# Altium schematic symbol library Schlib1.SchLib: 823 symbols (part 2 of 12)
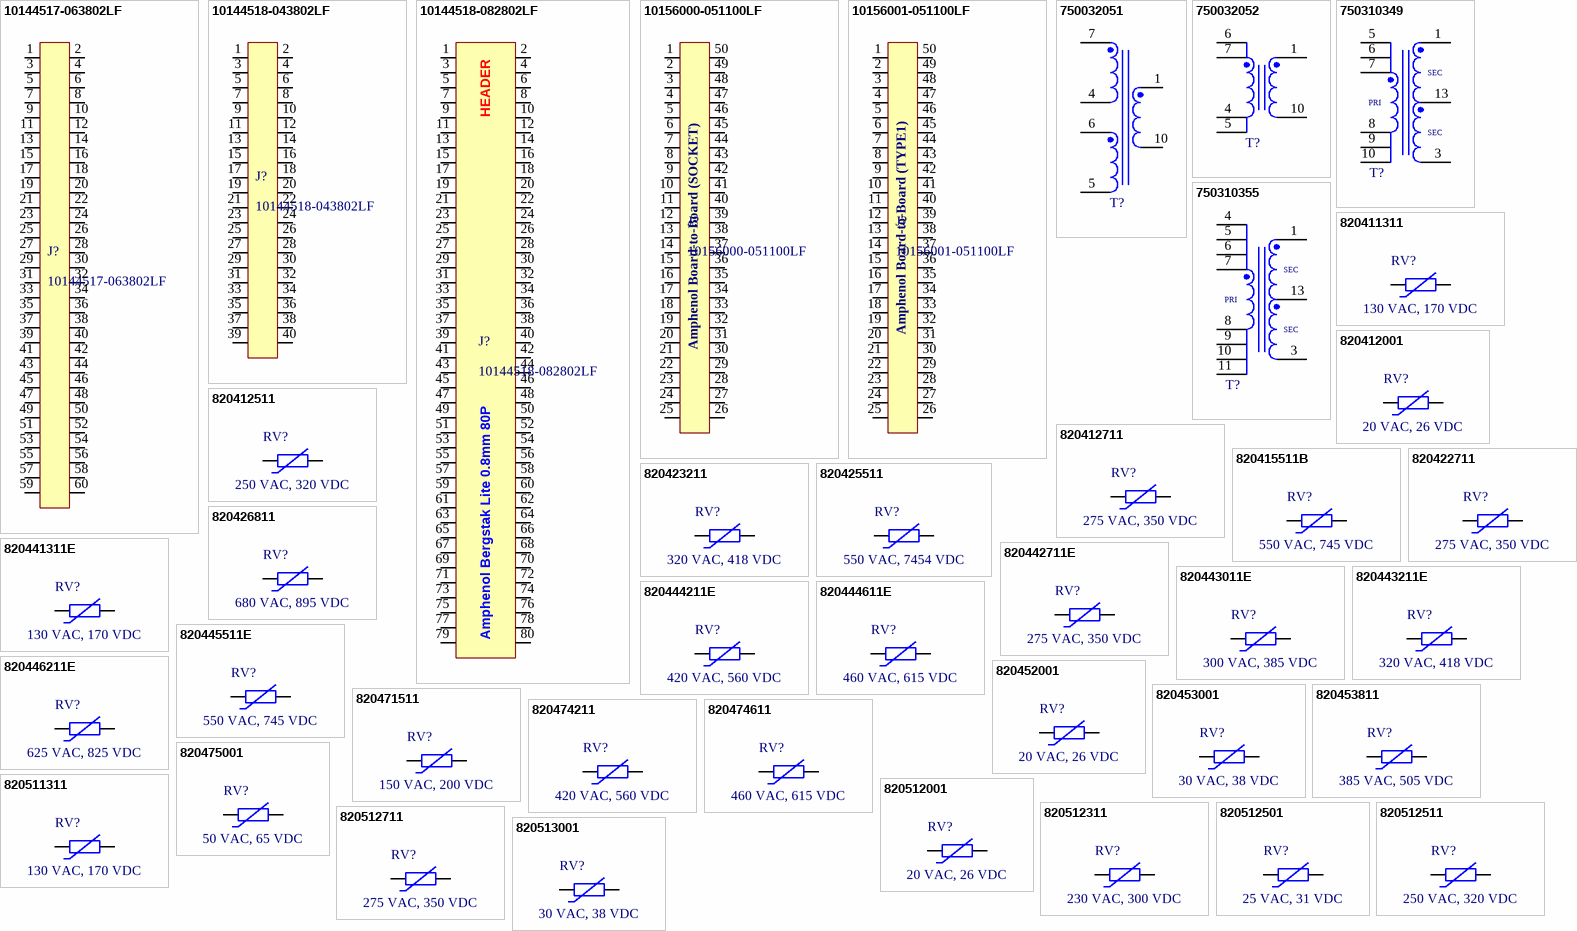
[diagram p40: symbols 10144517-063802LF to 820513001]

## 820474611
designator RV?, comment 460 VAC, 615 VDC
WE-VD Disk Varistor, D9 x H13 mm, 460 VAC, 615 VDC; Manufacturer Part Number: 820474611; Manufacturer: Wurth Elektronik; Channel Input Capacitance: 75 pF; Clamping Voltage: 1240 V; Energy Absorption: 58 J; Operating Voltage (AC): 460 V; Operating Voltage (DC): 615 V; Power Dissipation: 0.25 W; (Reverse) Breakdown Voltage: 750 V; (Reverse) Peak Pulse Current: 1750 A; Category: Surge Protection; Match Code: WE-VD; ComponentLink1Description: Website Link; ComponentLink1URL: https://www.we-online.com/redexpert/article/820474611?ad; ComponentLink2Description: Datasheet Link; ComponentLink2URL: https://www.we-online.com/redexpert/spec/820474611?ad; Mount: Through Hole; Min Operating Temperature: -40 °C; Max Operating Temperature: 105 °C; Packaging: Tape and Reel; Width: 7.9 mm; Height: 13 mm; Diameter: 9 mm
footprint D9W7.9H13P3
pins: 1, 2

## 820475001
designator RV?, comment 50 VAC, 65 VDC
WE-VD Disk Varistor, D9 x H12 mm, 50 VAC, 65 VDC; Manufacturer Part Number: 820475001; Manufacturer: Wurth Elektronik; Channel Input Capacitance: 640 pF; Clamping Voltage: 135 V; Energy Absorption: 7 J; Operating Voltage (AC): 50 V; Operating Voltage (DC): 65 V; Power Dissipation: 0.25 W; (Reverse) Breakdown Voltage: 82 V; (Reverse) Peak Pulse Current: 1750 A; Category: Surge Protection; Match Code: WE-VD; ComponentLink1Description: Website Link; ComponentLink1URL: https://www.we-online.com/redexpert/article/820475001?ad; ComponentLink2Description: Datasheet Link; ComponentLink2URL: https://www.we-online.com/redexpert/spec/820475001?ad; Mount: Through Hole; Min Operating Temperature: -40 °C; Max Operating Temperature: 105 °C; Packaging: Tape and Reel; Width: 3.8 mm; Height: 12 mm; Diameter: 9 mm
footprint D9W3.8H12P0.8
pins: 1, 2

## 820511311
designator RV?, comment 130 VAC, 170 VDC
WE-VD Disk Varistor, D12.5 x H15.5 mm, 130 VAC, 170 VDC; Manufacturer Part Number: 820511311; Manufacturer: Wurth Elektronik; Channel Input Capacitance: 410 pF; Clamping Voltage: 340 V; Energy Absorption: 28.5 J; Operating Voltage (AC): 130 V; Operating Voltage (DC): 170 V; Power Dissipation: 0.4 W; (Reverse) Breakdown Voltage: 200 V; (Reverse) Peak Pulse Current: 2500 A; Category: Surge Protection; Match Code: WE-VD; ComponentLink1Description: Website Link; ComponentLink1URL: https://www.we-online.com/redexpert/article/820511311?ad; ComponentLink2Description: Datasheet Link; ComponentLink2URL: https://www.we-online.com/redexpert/spec/820511311?ad; Mount: Through Hole; Min Operating Temperature: -40 °C; Max Operating Temperature: 105 °C; Packaging: Tape and Reel; Width: 4.6 mm; Height: 15.5 mm; Diameter: 12.5 mm
footprint D12.5W4.6H15.5P0.8
pins: 1, 2

## 820512001
designator RV?, comment 20 VAC, 26 VDC
WE-VD Disk Varistor, D12.5 x H15.5 mm, 20 VAC, 26 VDC; Manufacturer Part Number: 820512001; Manufacturer: Wurth Elektronik; Channel Input Capacitance: 4250 pF; Clamping Voltage: 65 V; Energy Absorption: 4.4 J; Operating Voltage (AC): 20 V; Operating Voltage (DC): 26 V; Power Dissipation: 0.05 W; (Reverse) Breakdown Voltage: 33 V; (Reverse) Peak Pulse Current: 500 A; Category: Surge Protection; Match Code: WE-VD; ComponentLink1Description: Website Link; ComponentLink1URL: https://www.we-online.com/redexpert/article/820512001?ad; ComponentLink2Description: Datasheet Link; ComponentLink2URL: https://www.we-online.com/redexpert/spec/820512001?ad; Mount: Through Hole; Min Operating Temperature: -40 °C; Max Operating Temperature: 105 °C; Packaging: Tape and Reel; Width: 5.1 mm; Height: 15.5 mm; Diameter: 12.5 mm
footprint D12.5W5.1H15.5P0.8
pins: 1, 2

## 820512311
designator RV?, comment 230 VAC, 300 VDC
WE-VD Disk Varistor, D12.5 x H15.5 mm, 230 VAC, 300 VDC; Manufacturer Part Number: 820512311; Manufacturer: Wurth Elektronik; Channel Input Capacitance: 230 pF; Clamping Voltage: 595 V; Energy Absorption: 52 J; Operating Voltage (AC): 230 V; Operating Voltage (DC): 300 V; Power Dissipation: 0.4 W; (Reverse) Breakdown Voltage: 360 V; (Reverse) Peak Pulse Current: 2500 A; Category: Surge Protection; Match Code: WE-VD; ComponentLink1Description: Website Link; ComponentLink1URL: https://www.we-online.com/redexpert/article/820512311?ad; ComponentLink2Description: Datasheet Link; ComponentLink2URL: https://www.we-online.com/redexpert/spec/820512311?ad; Mount: Through Hole; Min Operating Temperature: -40 °C; Max Operating Temperature: 105 °C; Packaging: Tape and Reel; Width: 5.5 mm; Height: 15.5 mm; Diameter: 12.5 mm
footprint D12.5W5.5H15.5P0.9
pins: 1, 2

## 820512501
designator RV?, comment 25 VAC, 31 VDC
WE-VD Disk Varistor, D12.5 x H15.5 mm, 25 VAC, 31 VDC; Manufacturer Part Number: 820512501; Manufacturer: Wurth Elektronik; Channel Input Capacitance: 3660 pF; Clamping Voltage: 77 V; Energy Absorption: 4.7 J; Operating Voltage (AC): 25 V; Operating Voltage (DC): 31 V; Power Dissipation: 0.05 W; (Reverse) Breakdown Voltage: 39 V; (Reverse) Peak Pulse Current: 500 A; Category: Surge Protection; Match Code: WE-VD; ComponentLink1Description: Website Link; ComponentLink1URL: https://www.we-online.com/redexpert/article/820512501?ad; ComponentLink2Description: Datasheet Link; ComponentLink2URL: https://www.we-online.com/redexpert/spec/820512501?ad; Mount: Through Hole; Min Operating Temperature: -40 °C; Max Operating Temperature: 105 °C; Packaging: Tape and Reel; Width: 5.1 mm; Height: 15.5 mm; Diameter: 12.5 mm
footprint D12.5W5.1H15.5P0.8
pins: 1, 2

## 820512511
designator RV?, comment 250 VAC, 320 VDC
WE-VD Disk Varistor, D12.5 x H16 mm, 250 VAC, 320 VDC; Manufacturer Part Number: 820512511; Manufacturer: Wurth Elektronik; Channel Input Capacitance: 210 pF; Clamping Voltage: 650 V; Energy Absorption: 60 J; Operating Voltage (AC): 250 V; Operating Voltage (DC): 320 V; Power Dissipation: 0.4 W; (Reverse) Breakdown Voltage: 390 V; (Reverse) Peak Pulse Current: 2500 A; Category: Surge Protection; Match Code: WE-VD; ComponentLink1Description: Website Link; ComponentLink1URL: https://www.we-online.com/redexpert/article/820512511?ad; ComponentLink2Description: Datasheet Link; ComponentLink2URL: https://www.we-online.com/redexpert/spec/820512511?ad; Mount: Through Hole; Min Operating Temperature: -40 °C; Max Operating Temperature: 105 °C; Packaging: Tape and Reel; Width: 5.7 mm; Height: 16 mm; Diameter: 12.5 mm
footprint D12.5W5.7H16P1.1
pins: 1, 2

## 820512711
designator RV?, comment 275 VAC, 350 VDC
WE-VD Disk Varistor, D12.5 x H16 mm, 275 VAC, 350 VDC; Manufacturer Part Number: 820512711; Manufacturer: Wurth Elektronik; Channel Input Capacitance: 190 pF; Clamping Voltage: 710 V; Energy Absorption: 66 J; Operating Voltage (AC): 275 V; Operating Voltage (DC): 350 V; Power Dissipation: 0.4 W; (Reverse) Breakdown Voltage: 430 V; (Reverse) Peak Pulse Current: 2500 A; Category: Surge Protection; Match Code: WE-VD; ComponentLink1Description: Website Link; ComponentLink1URL: https://www.we-online.com/redexpert/article/820512711?ad; ComponentLink2Description: Datasheet Link; ComponentLink2URL: https://www.we-online.com/redexpert/spec/820512711?ad; Mount: Through Hole; Min Operating Temperature: -40 °C; Max Operating Temperature: 105 °C; Packaging: Tape and Reel; Width: 6.5 mm; Height: 16 mm; Diameter: 12.5 mm
footprint D12.5W6.5H16P1.3
pins: 1, 2

## 820513001
designator RV?, comment 30 VAC, 38 VDC
WE-VD Disk Varistor, D12.5 x H15.5 mm, 30 VAC, 38 VDC; Manufacturer Part Number: 820513001; Manufacturer: Wurth Elektronik; Channel Input Capacitance: 3140 pF; Clamping Voltage: 93 V; Energy Absorption: 6 J; Operating Voltage (AC): 30 V; Operating Voltage (DC): 38 V; Power Dissipation: 0.05 W; (Reverse) Breakdown Voltage: 47 V; (Reverse) Peak Pulse Current: 500 A; Category: Surge Protection; Match Code: WE-VD; ComponentLink1Description: Website Link; ComponentLink1URL: https://www.we-online.com/redexpert/article/820513001?ad; ComponentLink2Description: Datasheet Link; ComponentLink2URL: https://www.we-online.com/redexpert/spec/820513001?ad; Mount: Through Hole; Min Operating Temperature: -40 °C; Max Operating Temperature: 105 °C; Packaging: Tape and Reel; Width: 5.5 mm; Height: 15.5 mm; Diameter: 12.5 mm
footprint D12.5W5.5H15.5P0.8
pins: 1, 2

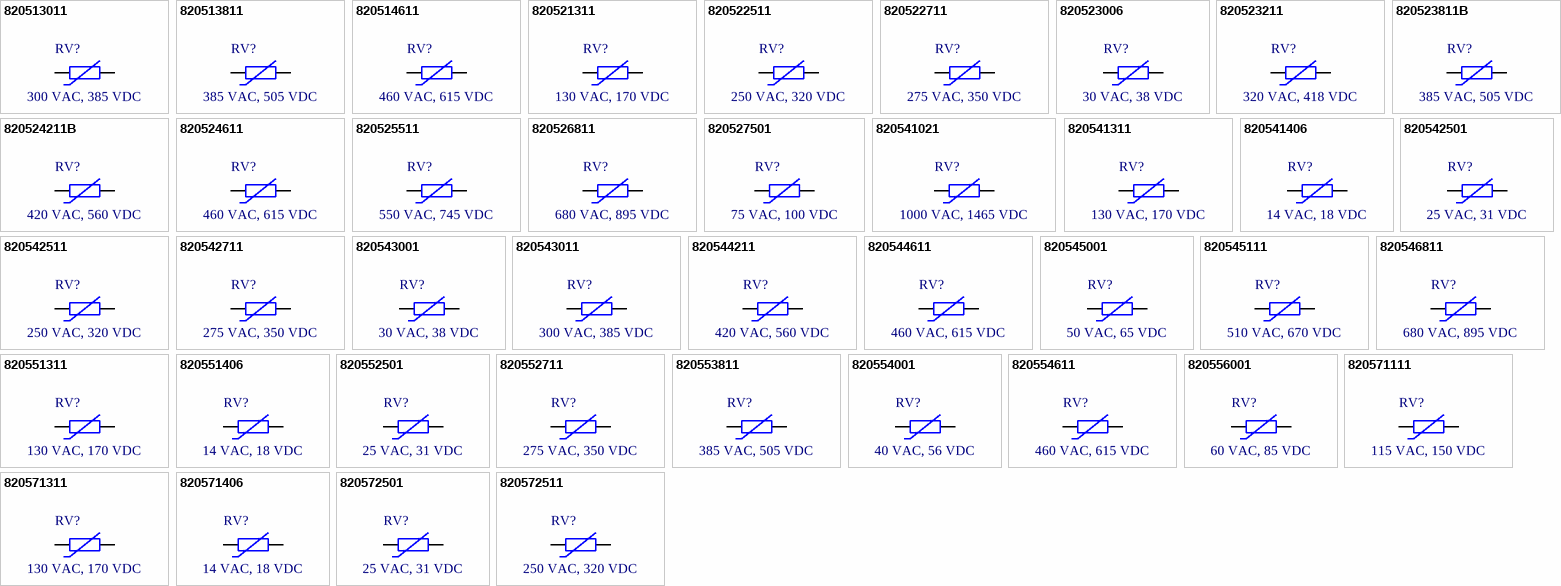
[diagram p4: symbols 820513011 to 820572511]

## 820513011
designator RV?, comment 300 VAC, 385 VDC
WE-VD Disk Varistor, D12.5 x H16 mm, 300 VAC, 385 VDC; Manufacturer Part Number: 820513011; Manufacturer: Wurth Elektronik; Channel Input Capacitance: 190 pF; Clamping Voltage: 775 V; Energy Absorption: 70 J; Operating Voltage (AC): 300 V; Operating Voltage (DC): 385 V; Power Dissipation: 0.4 W; (Reverse) Breakdown Voltage: 470 V; (Reverse) Peak Pulse Current: 2500 A; Category: Surge Protection; Match Code: WE-VD; ComponentLink1Description: Website Link; ComponentLink1URL: https://www.we-online.com/redexpert/article/820513011?ad; ComponentLink2Description: Datasheet Link; ComponentLink2URL: https://www.we-online.com/redexpert/spec/820513011?ad; Mount: Through Hole; Min Operating Temperature: -40 °C; Max Operating Temperature: 105 °C; Packaging: Tape and Reel; Width: 6.8 mm; Height: 16 mm; Diameter: 12.5 mm
footprint D12.5W6.8H16P1.5
pins: 1, 2

## 820513811
designator RV?, comment 385 VAC, 505 VDC
WE-VD Disk Varistor, D12.5 x H16.5 mm, 385 VAC, 505 VDC; Manufacturer Part Number: 820513811; Manufacturer: Wurth Elektronik; Channel Input Capacitance: 160 pF; Clamping Voltage: 1025 V; Energy Absorption: 82 J; Operating Voltage (AC): 385 V; Operating Voltage (DC): 505 V; Power Dissipation: 0.4 W; (Reverse) Breakdown Voltage: 620 V; (Reverse) Peak Pulse Current: 2500 A; Category: Surge Protection; Match Code: WE-VD; ComponentLink1Description: Website Link; ComponentLink1URL: https://www.we-online.com/redexpert/article/820513811?ad; ComponentLink2Description: Datasheet Link; ComponentLink2URL: https://www.we-online.com/redexpert/spec/820513811?ad; Mount: Through Hole; Min Operating Temperature: -40 °C; Max Operating Temperature: 105 °C; Packaging: Tape and Reel; Width: 7.6 mm; Height: 16.5 mm; Diameter: 12.5 mm
footprint D12.5W7.6H16.5P2.2
pins: 1, 2

## 820514611
designator RV?, comment 460 VAC, 615 VDC
WE-VD Disk Varistor, D12.5 x H16.5 mm, 460 VAC, 615 VDC; Manufacturer Part Number: 820514611; Manufacturer: Wurth Elektronik; Channel Input Capacitance: 140 pF; Clamping Voltage: 1240 V; Energy Absorption: 90 J; Operating Voltage (AC): 460 V; Operating Voltage (DC): 615 V; Power Dissipation: 0.4 W; (Reverse) Breakdown Voltage: 750 V; (Reverse) Peak Pulse Current: 2500 A; Category: Surge Protection; Match Code: WE-VD; ComponentLink1Description: Website Link; ComponentLink1URL: https://www.we-online.com/redexpert/article/820514611?ad; ComponentLink2Description: Datasheet Link; ComponentLink2URL: https://www.we-online.com/redexpert/spec/820514611?ad; Mount: Through Hole; Min Operating Temperature: -40 °C; Max Operating Temperature: 105 °C; Packaging: Tape and Reel; Width: 8.4 mm; Height: 16.5 mm; Diameter: 12.5 mm
footprint D12.5W8.4H16.5P2.8
pins: 1, 2

## 820521311
designator RV?, comment 130 VAC, 170 VDC
WE-VD Disk Varistor, D23 x H26.5 mm, 130 VAC, 170 VDC; Manufacturer Part Number: 820521311; Manufacturer: Wurth Elektronik; Channel Input Capacitance: 1830 pF; Clamping Voltage: 340 V; Energy Absorption: 114 J; Operating Voltage (AC): 130 V; Operating Voltage (DC): 170 V; Power Dissipation: 1 W; (Reverse) Breakdown Voltage: 200 V; (Reverse) Peak Pulse Current: 6500 A; Category: Surge Protection; Match Code: WE-VD; ComponentLink1Description: Website Link; ComponentLink1URL: https://www.we-online.com/redexpert/article/820521311?ad; ComponentLink2Description: Datasheet Link; ComponentLink2URL: https://www.we-online.com/redexpert/spec/820521311?ad; Mount: Through Hole; Min Operating Temperature: -40 °C; Max Operating Temperature: 105 °C; Packaging: Tape and Reel; Width: 5.3 mm; Height: 26.5 mm; Diameter: 23 mm
footprint D23W5.3H26.5P0.8
pins: 1, 2

## 820522511
designator RV?, comment 250 VAC, 320 VDC
WE-VD Disk Varistor, D23 x H26.5 mm, 250 VAC, 320 VDC; Manufacturer Part Number: 820522511; Manufacturer: Wurth Elektronik; Channel Input Capacitance: 980 pF; Clamping Voltage: 650 V; Energy Absorption: 240 J; Operating Voltage (AC): 250 V; Operating Voltage (DC): 320 V; Power Dissipation: 1 W; (Reverse) Breakdown Voltage: 390 V; (Reverse) Peak Pulse Current: 6500 A; Category: Surge Protection; Match Code: WE-VD; ComponentLink1Description: Website Link; ComponentLink1URL: https://www.we-online.com/redexpert/article/820522511?ad; ComponentLink2Description: Datasheet Link; ComponentLink2URL: https://www.we-online.com/redexpert/spec/820522511?ad; Mount: Through Hole; Min Operating Temperature: -40 °C; Max Operating Temperature: 105 °C; Packaging: Tape and Reel; Width: 6.4 mm; Height: 26.5 mm; Diameter: 23 mm
footprint D23W6.4H26.5P0.9
pins: 1, 2

## 820522711
designator RV?, comment 275 VAC, 350 VDC
WE-VD Disk Varistor, D23 x H26.5 mm, 275 VAC, 350 VDC; Manufacturer Part Number: 820522711; Manufacturer: Wurth Elektronik; Channel Input Capacitance: 860 pF; Clamping Voltage: 710 V; Energy Absorption: 264 J; Operating Voltage (AC): 275 V; Operating Voltage (DC): 350 V; Power Dissipation: 1 W; (Reverse) Breakdown Voltage: 430 V; (Reverse) Peak Pulse Current: 6500 A; Category: Surge Protection; Match Code: WE-VD; ComponentLink1Description: Website Link; ComponentLink1URL: https://www.we-online.com/redexpert/article/820522711?ad; ComponentLink2Description: Datasheet Link; ComponentLink2URL: https://www.we-online.com/redexpert/spec/820522711?ad; Mount: Through Hole; Min Operating Temperature: -40 °C; Max Operating Temperature: 105 °C; Packaging: Tape and Reel; Width: 7.2 mm; Height: 26.5 mm; Diameter: 23 mm
footprint D23W7.2H26.5P1.1
pins: 1, 2

## 820523006
designator RV?, comment 30 VAC, 38 VDC
WE-VD Disk Varistor, D23 x H26.5 mm, 30 VAC, 38 VDC; Manufacturer Part Number: 820523006; Manufacturer: Wurth Elektronik; Channel Input Capacitance: 12100 pF; Clamping Voltage: 93 V; Energy Absorption: 17 J; Operating Voltage (AC): 30 V; Operating Voltage (DC): 38 V; Power Dissipation: 0.2 W; (Reverse) Breakdown Voltage: 47 V; (Reverse) Peak Pulse Current: 2000 A; Category: Surge Protection; Match Code: WE-VD; ComponentLink1Description: Website Link; ComponentLink1URL: https://www.we-online.com/redexpert/article/820523006?ad; ComponentLink2Description: Datasheet Link; ComponentLink2URL: https://www.we-online.com/redexpert/spec/820523006?ad; Mount: Through Hole; Min Operating Temperature: -40 °C; Max Operating Temperature: 105 °C; Packaging: Tape and Reel; Width: 5.6 mm; Height: 26.5 mm; Diameter: 23 mm
footprint D23W5.6H26.5P0.8
pins: 1, 2

## 820523211
designator RV?, comment 320 VAC, 418 VDC
WE-VD Disk Varistor, D23 x H27 mm, 320 VAC, 418 VDC; Manufacturer Part Number: 820523211; Manufacturer: Wurth Elektronik; Channel Input Capacitance: 760 pF; Clamping Voltage: 842 V; Energy Absorption: 296 J; Operating Voltage (AC): 320 V; Operating Voltage (DC): 418 V; Power Dissipation: 1 W; (Reverse) Breakdown Voltage: 510 V; (Reverse) Peak Pulse Current: 6500 A; Category: Surge Protection; Match Code: WE-VD; ComponentLink1Description: Website Link; ComponentLink1URL: https://www.we-online.com/redexpert/article/820523211?ad; ComponentLink2Description: Datasheet Link; ComponentLink2URL: https://www.we-online.com/redexpert/spec/820523211?ad; Mount: Through Hole; Min Operating Temperature: -40 °C; Max Operating Temperature: 105 °C; Packaging: Tape and Reel; Width: 7.7 mm; Height: 27 mm; Diameter: 23 mm
footprint D23W7.7H27P1.5
pins: 1, 2

## 820523811B
designator RV?, comment 385 VAC, 505 VDC
WE-VD Disk Varistor, D23 x H27 mm, 385 VAC, 505 VDC; Manufacturer Part Number: 820523811B; Manufacturer: Wurth Elektronik; Channel Input Capacitance: 600 pF; Clamping Voltage: 1025 V; Energy Absorption: 328 J; Operating Voltage (AC): 385 V; Operating Voltage (DC): 505 V; Power Dissipation: 1 W; (Reverse) Breakdown Voltage: 620 V; (Reverse) Peak Pulse Current: 6500 A; Category: Surge Protection; Match Code: WE-VD; ComponentLink1Description: Website Link; ComponentLink1URL: https://www.we-online.com/redexpert/article/820523811B?ad; ComponentLink2Description: Datasheet Link; ComponentLink2URL: https://www.we-online.com/redexpert/spec/820523811B?ad; Mount: Through Hole; Min Operating Temperature: -40 °C; Max Operating Temperature: 105 °C; Packaging: Tape and Reel; Width: 8.3 mm; Height: 27 mm; Diameter: 23 mm
footprint D23W8.3H27P2
pins: 1, 2

## 820524211B
designator RV?, comment 420 VAC, 560 VDC
WE-VD Disk Varistor, D23 x H27 mm, 420 VAC, 560 VDC; Manufacturer Part Number: 820524211B; Manufacturer: Wurth Elektronik; Channel Input Capacitance: 570 pF; Clamping Voltage: 1120 V; Energy Absorption: 344 J; Operating Voltage (AC): 420 V; Operating Voltage (DC): 560 V; Power Dissipation: 1 W; (Reverse) Breakdown Voltage: 680 V; (Reverse) Peak Pulse Current: 6500 A; Category: Surge Protection; Match Code: WE-VD; ComponentLink1Description: Website Link; ComponentLink1URL: https://www.we-online.com/redexpert/article/820524211B?ad; ComponentLink2Description: Datasheet Link; ComponentLink2URL: https://www.we-online.com/redexpert/spec/820524211B?ad; Mount: Through Hole; Min Operating Temperature: -40 °C; Max Operating Temperature: 105 °C; Packaging: Tape and Reel; Width: 8.7 mm; Height: 27 mm; Diameter: 23 mm
footprint D23W8.7H27P2.3
pins: 1, 2

## 820524611
designator RV?, comment 460 VAC, 615 VDC
WE-VD Disk Varistor, D23 x H27 mm, 460 VAC, 615 VDC; Manufacturer Part Number: 820524611; Manufacturer: Wurth Elektronik; Channel Input Capacitance: 520 pF; Clamping Voltage: 1240 V; Energy Absorption: 360 J; Operating Voltage (AC): 460 V; Operating Voltage (DC): 615 V; Power Dissipation: 1 W; (Reverse) Breakdown Voltage: 750 V; (Reverse) Peak Pulse Current: 6500 A; Category: Surge Protection; Match Code: WE-VD; ComponentLink1Description: Website Link; ComponentLink1URL: https://www.we-online.com/redexpert/article/820524611?ad; ComponentLink2Description: Datasheet Link; ComponentLink2URL: https://www.we-online.com/redexpert/spec/820524611?ad; Mount: Through Hole; Min Operating Temperature: -40 °C; Max Operating Temperature: 105 °C; Packaging: Tape and Reel; Width: 9.1 mm; Height: 27 mm; Diameter: 23 mm
footprint D23W9.1H27P2.6
pins: 1, 2

## 820525511
designator RV?, comment 550 VAC, 745 VDC
WE-VD Disk Varistor, D23 x H27 mm, 550 VAC, 745 VDC; Manufacturer Part Number: 820525511; Manufacturer: Wurth Elektronik; Channel Input Capacitance: 430 pF; Clamping Voltage: 1500 V; Energy Absorption: 408 J; Operating Voltage (AC): 550 V; Operating Voltage (DC): 745 V; Power Dissipation: 1 W; (Reverse) Breakdown Voltage: 910 V; (Reverse) Peak Pulse Current: 6500 A; Category: Surge Protection; Match Code: WE-VD; ComponentLink1Description: Website Link; ComponentLink1URL: https://www.we-online.com/redexpert/article/820525511?ad; ComponentLink2Description: Datasheet Link; ComponentLink2URL: https://www.we-online.com/redexpert/spec/820525511?ad; Mount: Through Hole; Min Operating Temperature: -40 °C; Max Operating Temperature: 105 °C; Packaging: Tape and Reel; Width: 10.1 mm; Height: 27 mm; Diameter: 23 mm
footprint D23W10.1H27P3.4
pins: 1, 2

## 820526811
designator RV?, comment 680 VAC, 895 VDC
WE-VD Disk Varistor, D23 x H27 mm, 680 VAC, 895 VDC; Manufacturer Part Number: 820526811; Manufacturer: Wurth Elektronik; Channel Input Capacitance: 360 pF; Clamping Voltage: 1815 V; Energy Absorption: 496 J; Operating Voltage (AC): 680 V; Operating Voltage (DC): 895 V; Power Dissipation: 1 W; (Reverse) Breakdown Voltage: 1100 V; (Reverse) Peak Pulse Current: 6500 A; Category: Surge Protection; Match Code: WE-VD; ComponentLink1Description: Website Link; ComponentLink1URL: https://www.we-online.com/redexpert/article/820526811?ad; ComponentLink2Description: Datasheet Link; ComponentLink2URL: https://www.we-online.com/redexpert/spec/820526811?ad; Mount: Through Hole; Min Operating Temperature: -40 °C; Max Operating Temperature: 105 °C; Packaging: Tape and Reel; Width: 11.2 mm; Height: 27 mm; Diameter: 23 mm
footprint D23W11.2H27P4.3
pins: 1, 2

## 820527501
designator RV?, comment 75 VAC, 100 VDC
WE-VD Disk Varistor, D23 x H26.5 mm, 75 VAC, 100 VDC; Manufacturer Part Number: 820527501; Manufacturer: Wurth Elektronik; Channel Input Capacitance: 3800 pF; Clamping Voltage: 200 V; Energy Absorption: 64 J; Operating Voltage (AC): 75 V; Operating Voltage (DC): 100 V; Power Dissipation: 1 W; (Reverse) Breakdown Voltage: 120 V; (Reverse) Peak Pulse Current: 6500 A; Category: Surge Protection; Match Code: WE-VD; ComponentLink1Description: Website Link; ComponentLink1URL: https://www.we-online.com/redexpert/article/820527501?ad; ComponentLink2Description: Datasheet Link; ComponentLink2URL: https://www.we-online.com/redexpert/spec/820527501?ad; Mount: Through Hole; Min Operating Temperature: -40 °C; Max Operating Temperature: 105 °C; Packaging: Tape and Reel; Width: 5.1 mm; Height: 26.5 mm; Diameter: 23 mm
footprint D23W5.1H26.5P0.8
pins: 1, 2

## 820541021
designator RV?, comment 1000 VAC, 1465 VDC
WE-VD Disk Varistor, D16.5 x H22.5 mm, 1000 VAC, 1465 VDC; Manufacturer Part Number: 820541021; Manufacturer: Wurth Elektronik; Channel Input Capacitance: 150 pF; Clamping Voltage: 2970 V; Energy Absorption: 348 J; Operating Voltage (AC): 1000 V; Operating Voltage (DC): 1465 V; Power Dissipation: 0.6 W; (Reverse) Breakdown Voltage: 1800 V; (Reverse) Peak Pulse Current: 4500 A; Category: Surge Protection; Match Code: WE-VD; ComponentLink1Description: Website Link; ComponentLink1URL: https://www.we-online.com/redexpert/article/820541021?ad; ComponentLink2Description: Datasheet Link; ComponentLink2URL: https://www.we-online.com/redexpert/spec/820541021?ad; Mount: Through Hole; Min Operating Temperature: -40 °C; Max Operating Temperature: 105 °C; Packaging: Tape and Reel; Width: 12.8 mm; Height: 22.5 mm; Diameter: 16.5 mm
footprint D16.5W12.8H22.5P10.2
pins: 1, 2

## 820541311
designator RV?, comment 130 VAC, 170 VDC
WE-VD Disk Varistor, D16.5 x H19.5 mm, 130 VAC, 170 VDC; Manufacturer Part Number: 820541311; Manufacturer: Wurth Elektronik; Channel Input Capacitance: 840 pF; Clamping Voltage: 340 V; Energy Absorption: 57 J; Operating Voltage (AC): 130 V; Operating Voltage (DC): 170 V; Power Dissipation: 0.6 W; (Reverse) Breakdown Voltage: 200 V; (Reverse) Peak Pulse Current: 4500 A; Category: Surge Protection; Match Code: WE-VD; ComponentLink1Description: Website Link; ComponentLink1URL: https://www.we-online.com/redexpert/article/820541311?ad; ComponentLink2Description: Datasheet Link; ComponentLink2URL: https://www.we-online.com/redexpert/spec/820541311?ad; Mount: Through Hole; Min Operating Temperature: -40 °C; Max Operating Temperature: 105 °C; Packaging: Tape and Reel; Width: 4.8 mm; Height: 19.5 mm; Diameter: 16.5 mm
footprint D16.5W4.8H19.5P0.8
pins: 1, 2

## 820541406
designator RV?, comment 14 VAC, 18 VDC
WE-VD Disk Varistor, D16.5 x H19.5 mm, 14 VAC, 18 VDC; Manufacturer Part Number: 820541406; Manufacturer: Wurth Elektronik; Channel Input Capacitance: 11960 pF; Clamping Voltage: 43 V; Energy Absorption: 5.4 J; Operating Voltage (AC): 14 V; Operating Voltage (DC): 18 V; Power Dissipation: 0.1 W; (Reverse) Breakdown Voltage: 22 V; (Reverse) Peak Pulse Current: 1000 A; Category: Surge Protection; Match Code: WE-VD; ComponentLink1Description: Website Link; ComponentLink1URL: https://www.we-online.com/redexpert/article/820541406?ad; ComponentLink2Description: Datasheet Link; ComponentLink2URL: https://www.we-online.com/redexpert/spec/820541406?ad; Mount: Through Hole; Min Operating Temperature: -40 °C; Max Operating Temperature: 105 °C; Packaging: Tape and Reel; Width: 5 mm; Height: 19.5 mm; Diameter: 16.5 mm
footprint D16.5W5H19.5P0.8
pins: 1, 2

## 820542501
designator RV?, comment 25 VAC, 31 VDC
WE-VD Disk Varistor, D16.5 x H19.5 mm, 25 VAC, 31 VDC; Manufacturer Part Number: 820542501; Manufacturer: Wurth Elektronik; Channel Input Capacitance: 7620 pF; Clamping Voltage: 77 V; Energy Absorption: 9.4 J; Operating Voltage (AC): 25 V; Operating Voltage (DC): 31 V; Power Dissipation: 0.1 W; (Reverse) Breakdown Voltage: 39 V; (Reverse) Peak Pulse Current: 1000 A; Category: Surge Protection; Match Code: WE-VD; ComponentLink1Description: Website Link; ComponentLink1URL: https://www.we-online.com/redexpert/article/820542501?ad; ComponentLink2Description: Datasheet Link; ComponentLink2URL: https://www.we-online.com/redexpert/spec/820542501?ad; Mount: Through Hole; Min Operating Temperature: -40 °C; Max Operating Temperature: 105 °C; Packaging: Tape and Reel; Width: 5.2 mm; Height: 19.5 mm; Diameter: 16.5 mm
footprint D16.5W5.2H19.5P0.8
pins: 1, 2

## 820542511
designator RV?, comment 250 VAC, 320 VDC
WE-VD Disk Varistor, D16.5 x H20 mm, 250 VAC, 320 VDC; Manufacturer Part Number: 820542511; Manufacturer: Wurth Elektronik; Channel Input Capacitance: 460 pF; Clamping Voltage: 650 V; Energy Absorption: 120 J; Operating Voltage (AC): 250 V; Operating Voltage (DC): 320 V; Power Dissipation: 0.6 W; (Reverse) Breakdown Voltage: 390 V; (Reverse) Peak Pulse Current: 4500 A; Category: Surge Protection; Match Code: WE-VD; ComponentLink1Description: Website Link; ComponentLink1URL: https://www.we-online.com/redexpert/article/820542511?ad; ComponentLink2Description: Datasheet Link; ComponentLink2URL: https://www.we-online.com/redexpert/spec/820542511?ad; Mount: Through Hole; Min Operating Temperature: -40 °C; Max Operating Temperature: 105 °C; Packaging: Tape and Reel; Width: 5.9 mm; Height: 20 mm; Diameter: 16.5 mm
footprint D16.5W5.9H20P1.1
pins: 1, 2

## 820542711
designator RV?, comment 275 VAC, 350 VDC
WE-VD Disk Varistor, D16.5 x H20 mm, 275 VAC, 350 VDC; Manufacturer Part Number: 820542711; Manufacturer: Wurth Elektronik; Channel Input Capacitance: 450 pF; Clamping Voltage: 710 V; Energy Absorption: 132 J; Operating Voltage (AC): 275 V; Operating Voltage (DC): 350 V; Power Dissipation: 0.6 W; (Reverse) Breakdown Voltage: 430 V; (Reverse) Peak Pulse Current: 4500 A; Category: Surge Protection; Match Code: WE-VD; ComponentLink1Description: Website Link; ComponentLink1URL: https://www.we-online.com/redexpert/article/820542711?ad; ComponentLink2Description: Datasheet Link; ComponentLink2URL: https://www.we-online.com/redexpert/spec/820542711?ad; Mount: Through Hole; Min Operating Temperature: -40 °C; Max Operating Temperature: 105 °C; Packaging: Tape and Reel; Width: 6.7 mm; Height: 20 mm; Diameter: 16.5 mm
footprint D16.5W6.7H20P1.3
pins: 1, 2

## 820543001
designator RV?, comment 30 VAC, 38 VDC
WE-VD Disk Varistor, D16.5 x H19.5 mm, 30 VAC, 38 VDC; Manufacturer Part Number: 820543001; Manufacturer: Wurth Elektronik; Channel Input Capacitance: 6420 pF; Clamping Voltage: 93 V; Energy Absorption: 12 J; Operating Voltage (AC): 30 V; Operating Voltage (DC): 38 V; Power Dissipation: 0.1 W; (Reverse) Breakdown Voltage: 47 V; (Reverse) Peak Pulse Current: 1000 A; Category: Surge Protection; Match Code: WE-VD; ComponentLink1Description: Website Link; ComponentLink1URL: https://www.we-online.com/redexpert/article/820543001?ad; ComponentLink2Description: Datasheet Link; ComponentLink2URL: https://www.we-online.com/redexpert/spec/820543001?ad; Mount: Through Hole; Min Operating Temperature: -40 °C; Max Operating Temperature: 105 °C; Packaging: Tape and Reel; Width: 5.6 mm; Height: 19.5 mm; Diameter: 16.5 mm
footprint D16.5W5.6H19.5P0.8
pins: 1, 2

## 820543011
designator RV?, comment 300 VAC, 385 VDC
WE-VD Disk Varistor, D16.5 x H20 mm, 300 VAC, 385 VDC; Manufacturer Part Number: 820543011; Manufacturer: Wurth Elektronik; Channel Input Capacitance: 420 pF; Clamping Voltage: 775 V; Energy Absorption: 140 J; Operating Voltage (AC): 300 V; Operating Voltage (DC): 385 V; Power Dissipation: 0.6 W; (Reverse) Breakdown Voltage: 470 V; (Reverse) Peak Pulse Current: 4500 A; Category: Surge Protection; Match Code: WE-VD; ComponentLink1Description: Website Link; ComponentLink1URL: https://www.we-online.com/redexpert/article/820543011?ad; ComponentLink2Description: Datasheet Link; ComponentLink2URL: https://www.we-online.com/redexpert/spec/820543011?ad; Mount: Through Hole; Min Operating Temperature: -40 °C; Max Operating Temperature: 105 °C; Packaging: Tape and Reel; Width: 7 mm; Height: 20 mm; Diameter: 16.5 mm
footprint D16.5W7H20P1.5
pins: 1, 2

## 820544211
designator RV?, comment 420 VAC, 560 VDC
WE-VD Disk Varistor, D16.5 x H20.5 mm, 420 VAC, 560 VDC; Manufacturer Part Number: 820544211; Manufacturer: Wurth Elektronik; Channel Input Capacitance: 290 pF; Clamping Voltage: 1120 V; Energy Absorption: 172 J; Operating Voltage (AC): 420 V; Operating Voltage (DC): 560 V; Power Dissipation: 0.6 W; (Reverse) Breakdown Voltage: 680 V; (Reverse) Peak Pulse Current: 4500 A; Category: Surge Protection; Match Code: WE-VD; ComponentLink1Description: Website Link; ComponentLink1URL: https://www.we-online.com/redexpert/article/820544211?ad; ComponentLink2Description: Datasheet Link; ComponentLink2URL: https://www.we-online.com/redexpert/spec/820544211?ad; Mount: Through Hole; Min Operating Temperature: -40 °C; Max Operating Temperature: 105 °C; Packaging: Tape and Reel; Width: 8.2 mm; Height: 20.5 mm; Diameter: 16.5 mm
footprint D16.5W8.2H20.5P2.5
pins: 1, 2

## 820544611
designator RV?, comment 460 VAC, 615 VDC
WE-VD Disk Varistor, D16.5 x H20.5 mm, 460 VAC, 615 VDC; Manufacturer Part Number: 820544611; Manufacturer: Wurth Elektronik; Channel Input Capacitance: 270 pF; Clamping Voltage: 1240 V; Energy Absorption: 180 J; Operating Voltage (AC): 460 V; Operating Voltage (DC): 615 V; Power Dissipation: 0.6 W; (Reverse) Breakdown Voltage: 750 V; (Reverse) Peak Pulse Current: 4500 A; Category: Surge Protection; Match Code: WE-VD; ComponentLink1Description: Website Link; ComponentLink1URL: https://www.we-online.com/redexpert/article/820544611?ad; ComponentLink2Description: Datasheet Link; ComponentLink2URL: https://www.we-online.com/redexpert/spec/820544611?ad; Mount: Through Hole; Min Operating Temperature: -40 °C; Max Operating Temperature: 105 °C; Packaging: Tape and Reel; Width: 8.6 mm; Height: 20.5 mm; Diameter: 16.5 mm
footprint D16.5W8.6H20.5P2.8
pins: 1, 2

## 820545001
designator RV?, comment 50 VAC, 65 VDC
WE-VD Disk Varistor, D16.5 x H19.5 mm, 50 VAC, 65 VDC; Manufacturer Part Number: 820545001; Manufacturer: Wurth Elektronik; Channel Input Capacitance: 2970 pF; Clamping Voltage: 135 V; Energy Absorption: 22 J; Operating Voltage (AC): 50 V; Operating Voltage (DC): 65 V; Power Dissipation: 0.6 W; (Reverse) Breakdown Voltage: 82 V; (Reverse) Peak Pulse Current: 1000 A; Category: Surge Protection; Match Code: WE-VD; ComponentLink1Description: Website Link; ComponentLink1URL: https://www.we-online.com/redexpert/article/820545001?ad; ComponentLink2Description: Datasheet Link; ComponentLink2URL: https://www.we-online.com/redexpert/spec/820545001?ad; Mount: Through Hole; Min Operating Temperature: -40 °C; Max Operating Temperature: 105 °C; Packaging: Tape and Reel; Width: 4.4 mm; Height: 19.5 mm; Diameter: 16.5 mm
footprint D16.5W4.4H19.5P0.8
pins: 1, 2

## 820545111
designator RV?, comment 510 VAC, 670 VDC
WE-VD Disk Varistor, D16.5 x H20.5 mm, 510 VAC, 670 VDC; Manufacturer Part Number: 820545111; Manufacturer: Wurth Elektronik; Channel Input Capacitance: 250 pF; Clamping Voltage: 1355 V; Energy Absorption: 188 J; Operating Voltage (AC): 510 V; Operating Voltage (DC): 670 V; Power Dissipation: 0.6 W; (Reverse) Breakdown Voltage: 820 V; (Reverse) Peak Pulse Current: 4500 A; Category: Surge Protection; Match Code: WE-VD; ComponentLink1Description: Website Link; ComponentLink1URL: https://www.we-online.com/redexpert/article/820545111?ad; ComponentLink2Description: Datasheet Link; ComponentLink2URL: https://www.we-online.com/redexpert/spec/820545111?ad; Mount: Through Hole; Min Operating Temperature: -40 °C; Max Operating Temperature: 105 °C; Packaging: Tape and Reel; Width: 9 mm; Height: 20.5 mm; Diameter: 16.5 mm
footprint D16.5W9H20.5P3.1
pins: 1, 2

## 820546811
designator RV?, comment 680 VAC, 895 VDC
WE-VD Disk Varistor, D16.5 x H20.5 mm, 680 VAC, 895 VDC; Manufacturer Part Number: 820546811; Manufacturer: Wurth Elektronik; Channel Input Capacitance: 180 pF; Clamping Voltage: 1815 V; Energy Absorption: 248 J; Operating Voltage (AC): 680 V; Operating Voltage (DC): 895 V; Power Dissipation: 0.6 W; (Reverse) Breakdown Voltage: 1100 V; (Reverse) Peak Pulse Current: 4500 A; Category: Surge Protection; Match Code: WE-VD; ComponentLink1Description: Website Link; ComponentLink1URL: https://www.we-online.com/redexpert/article/820546811?ad; ComponentLink2Description: Datasheet Link; ComponentLink2URL: https://www.we-online.com/redexpert/spec/820546811?ad; Mount: Through Hole; Min Operating Temperature: -40 °C; Max Operating Temperature: 105 °C; Packaging: Tape and Reel; Width: 10.7 mm; Height: 20.5 mm; Diameter: 16.5 mm
footprint D16.5W10.7H20.5P4.5
pins: 1, 2

## 820551311
designator RV?, comment 130 VAC, 170 VDC
WE-VD Disk Varistor, D7.5 x H10.5 mm, 130 VAC, 170 VDC; Manufacturer Part Number: 820551311; Manufacturer: Wurth Elektronik; Channel Input Capacitance: 135 pF; Clamping Voltage: 355 V; Energy Absorption: 7.1 J; Operating Voltage (AC): 130 V; Operating Voltage (DC): 170 V; Power Dissipation: 0.1 W; (Reverse) Breakdown Voltage: 200 V; (Reverse) Peak Pulse Current: 400 A; Category: Surge Protection; Match Code: WE-VD; ComponentLink1Description: Website Link; ComponentLink1URL: https://www.we-online.com/redexpert/article/820551311?ad; ComponentLink2Description: Datasheet Link; ComponentLink2URL: https://www.we-online.com/redexpert/spec/820551311?ad; Mount: Through Hole; Min Operating Temperature: -40 °C; Max Operating Temperature: 105 °C; Packaging: Tape and Reel; Width: 4.2 mm; Height: 10.5 mm; Diameter: 7.5 mm
footprint D7.5W4.2H10.5P0.8
pins: 1, 2

## 820551406
designator RV?, comment 14 VAC, 18 VDC
WE-VD Disk Varistor, D7.5 x H10.5 mm, 14 VAC, 18 VDC; Manufacturer Part Number: 820551406; Manufacturer: Wurth Elektronik; Channel Input Capacitance: 1130 pF; Clamping Voltage: 48 V; Energy Absorption: 0.7 J; Operating Voltage (AC): 14 V; Operating Voltage (DC): 18 V; Power Dissipation: 0.01 W; (Reverse) Breakdown Voltage: 22 V; (Reverse) Peak Pulse Current: 100 A; Category: Surge Protection; Match Code: WE-VD; ComponentLink1Description: Website Link; ComponentLink1URL: https://www.we-online.com/redexpert/article/820551406?ad; ComponentLink2Description: Datasheet Link; ComponentLink2URL: https://www.we-online.com/redexpert/spec/820551406?ad; Mount: Through Hole; Min Operating Temperature: -40 °C; Max Operating Temperature: 105 °C; Packaging: Tape and Reel; Width: 4.5 mm; Height: 10.5 mm; Diameter: 7.5 mm
footprint D7.5W4.5H10.5P0.8
pins: 1, 2

## 820552501
designator RV?, comment 25 VAC, 31 VDC
WE-VD Disk Varistor, D7.5 x H10.5 mm, 25 VAC, 31 VDC; Manufacturer Part Number: 820552501; Manufacturer: Wurth Elektronik; Channel Input Capacitance: 830 pF; Clamping Voltage: 86 V; Energy Absorption: 1.2 J; Operating Voltage (AC): 25 V; Operating Voltage (DC): 31 V; Power Dissipation: 0.01 W; (Reverse) Breakdown Voltage: 39 V; (Reverse) Peak Pulse Current: 100 A; Category: Surge Protection; Match Code: WE-VD; ComponentLink1Description: Website Link; ComponentLink1URL: https://www.we-online.com/redexpert/article/820552501?ad; ComponentLink2Description: Datasheet Link; ComponentLink2URL: https://www.we-online.com/redexpert/spec/820552501?ad; Mount: Through Hole; Min Operating Temperature: -40 °C; Max Operating Temperature: 105 °C; Packaging: Tape and Reel; Width: 4.7 mm; Height: 10.5 mm; Diameter: 7.5 mm
footprint D7.5W4.7H10.5P0.8
pins: 1, 2

## 820552711
designator RV?, comment 275 VAC, 350 VDC
WE-VD Disk Varistor, D7.5 x H11 mm, 275 VAC, 350 VDC; Manufacturer Part Number: 820552711; Manufacturer: Wurth Elektronik; Channel Input Capacitance: 65 pF; Clamping Voltage: 745 V; Energy Absorption: 16.5 J; Operating Voltage (AC): 275 V; Operating Voltage (DC): 350 V; Power Dissipation: 0.1 W; (Reverse) Breakdown Voltage: 430 V; (Reverse) Peak Pulse Current: 400 A; Category: Surge Protection; Match Code: WE-VD; ComponentLink1Description: Website Link; ComponentLink1URL: https://www.we-online.com/redexpert/article/820552711?ad; ComponentLink2Description: Datasheet Link; ComponentLink2URL: https://www.we-online.com/redexpert/spec/820552711?ad; Mount: Through Hole; Min Operating Temperature: -40 °C; Max Operating Temperature: 105 °C; Packaging: Tape and Reel; Width: 6.1 mm; Height: 11 mm; Diameter: 7.5 mm
footprint D7.5W6.1H11P1.5
pins: 1, 2

## 820553811
designator RV?, comment 385 VAC, 505 VDC
WE-VD Disk Varistor, D7.5 x H11.5 mm, 385 VAC, 505 VDC; Manufacturer Part Number: 820553811; Manufacturer: Wurth Elektronik; Channel Input Capacitance: 45 pF; Clamping Voltage: 1050 V; Energy Absorption: 20.5 J; Operating Voltage (AC): 385 V; Operating Voltage (DC): 505 V; Power Dissipation: 0.1 W; (Reverse) Breakdown Voltage: 620 V; (Reverse) Peak Pulse Current: 400 A; Category: Surge Protection; Match Code: WE-VD; ComponentLink1Description: Website Link; ComponentLink1URL: https://www.we-online.com/redexpert/article/820553811?ad; ComponentLink2Description: Datasheet Link; ComponentLink2URL: https://www.we-online.com/redexpert/spec/820553811?ad; Mount: Through Hole; Min Operating Temperature: -40 °C; Max Operating Temperature: 105 °C; Packaging: Tape and Reel; Width: 7.2 mm; Height: 11.5 mm; Diameter: 7.5 mm
footprint D7.5W7.2H11.5P2.4
pins: 1, 2

## 820554001
designator RV?, comment 40 VAC, 56 VDC
WE-VD Disk Varistor, D7.5 x H10.5 mm, 40 VAC, 56 VDC; Manufacturer Part Number: 820554001; Manufacturer: Wurth Elektronik; Channel Input Capacitance: 500 pF; Clamping Voltage: 150 V; Energy Absorption: 2.1 J; Operating Voltage (AC): 40 V; Operating Voltage (DC): 56 V; Power Dissipation: 0.01 W; (Reverse) Breakdown Voltage: 68 V; (Reverse) Peak Pulse Current: 100 A; Category: Surge Protection; Match Code: WE-VD; ComponentLink1Description: Website Link; ComponentLink1URL: https://www.we-online.com/redexpert/article/820554001?ad; ComponentLink2Description: Datasheet Link; ComponentLink2URL: https://www.we-online.com/redexpert/spec/820554001?ad; Mount: Through Hole; Min Operating Temperature: -40 °C; Max Operating Temperature: 105 °C; Packaging: Tape and Reel; Width: 5.5 mm; Height: 10.5 mm; Diameter: 7.5 mm
footprint D7.5W5.5H10.5P1.5
pins: 1, 2

## 820554611
designator RV?, comment 460 VAC, 615 VDC
WE-VD Disk Varistor, D7.5 x H11.5 mm, 460 VAC, 615 VDC; Manufacturer Part Number: 820554611; Manufacturer: Wurth Elektronik; Channel Input Capacitance: 35 pF; Clamping Voltage: 1290 V; Energy Absorption: 22.5 J; Operating Voltage (AC): 460 V; Operating Voltage (DC): 615 V; Power Dissipation: 0.1 W; (Reverse) Breakdown Voltage: 750 V; (Reverse) Peak Pulse Current: 400 A; Category: Surge Protection; Match Code: WE-VD; ComponentLink1Description: Website Link; ComponentLink1URL: https://www.we-online.com/redexpert/article/820554611?ad; ComponentLink2Description: Datasheet Link; ComponentLink2URL: https://www.we-online.com/redexpert/spec/820554611?ad; Mount: Through Hole; Min Operating Temperature: -40 °C; Max Operating Temperature: 105 °C; Packaging: Tape and Reel; Width: 7.9 mm; Height: 11.5 mm; Diameter: 7.5 mm
footprint D7.5W7.9H11.5P3
pins: 1, 2

## 820556001
designator RV?, comment 60 VAC, 85 VDC
WE-VD Disk Varistor, D7.5 x H10.5 mm, 60 VAC, 85 VDC; Manufacturer Part Number: 820556001; Manufacturer: Wurth Elektronik; Channel Input Capacitance: 260 pF; Clamping Voltage: 175 V; Energy Absorption: 3.5 J; Operating Voltage (AC): 60 V; Operating Voltage (DC): 85 V; Power Dissipation: 0.1 W; (Reverse) Breakdown Voltage: 100 V; (Reverse) Peak Pulse Current: 400 A; Category: Surge Protection; Match Code: WE-VD; ComponentLink1Description: Website Link; ComponentLink1URL: https://www.we-online.com/redexpert/article/820556001?ad; ComponentLink2Description: Datasheet Link; ComponentLink2URL: https://www.we-online.com/redexpert/spec/820556001?ad; Mount: Through Hole; Min Operating Temperature: -40 °C; Max Operating Temperature: 105 °C; Packaging: Tape and Reel; Width: 3.9 mm; Height: 10.5 mm; Diameter: 7.5 mm
footprint D7.5W3.9H10.5P0.8
pins: 1, 2

## 820571111
designator RV?, comment 115 VAC, 150 VDC
WE-VD Disk Varistor, D9 x H12 mm, 115 VAC, 150 VDC; Manufacturer Part Number: 820571111; Manufacturer: Wurth Elektronik; Channel Input Capacitance: 220 pF; Clamping Voltage: 300 V; Energy Absorption: 13 J; Operating Voltage (AC): 115 V; Operating Voltage (DC): 150 V; Power Dissipation: 0.25 W; (Reverse) Breakdown Voltage: 180 V; (Reverse) Peak Pulse Current: 1200 A; Category: Surge Protection; Match Code: WE-VD; ComponentLink1Description: Website Link; ComponentLink1URL: https://www.we-online.com/redexpert/article/820571111?ad; ComponentLink2Description: Datasheet Link; ComponentLink2URL: https://www.we-online.com/redexpert/spec/820571111?ad; Mount: Through Hole; Min Operating Temperature: -40 °C; Max Operating Temperature: 105 °C; Packaging: Tape and Reel; Width: 4.1 mm; Height: 12 mm; Diameter: 9 mm
footprint D9W4.1H12P0.8
pins: 1, 2

## 820571311
designator RV?, comment 130 VAC, 170 VDC
WE-VD Disk Varistor, D9 x H12 mm, 130 VAC, 170 VDC; Manufacturer Part Number: 820571311; Manufacturer: Wurth Elektronik; Channel Input Capacitance: 210 pF; Clamping Voltage: 340 V; Energy Absorption: 14.3 J; Operating Voltage (AC): 130 V; Operating Voltage (DC): 170 V; Power Dissipation: 0.25 W; (Reverse) Breakdown Voltage: 200 V; (Reverse) Peak Pulse Current: 1200 A; Category: Surge Protection; Match Code: WE-VD; ComponentLink1Description: Website Link; ComponentLink1URL: https://www.we-online.com/redexpert/article/820571311?ad; ComponentLink2Description: Datasheet Link; ComponentLink2URL: https://www.we-online.com/redexpert/spec/820571311?ad; Mount: Through Hole; Min Operating Temperature: -40 °C; Max Operating Temperature: 105 °C; Packaging: Tape and Reel; Width: 4.2 mm; Height: 12 mm; Diameter: 9 mm
footprint D9W4.2H12P0.8
pins: 1, 2

## 820571406
designator RV?, comment 14 VAC, 18 VDC
WE-VD Disk Varistor, D9 x H12 mm, 14 VAC, 18 VDC; Manufacturer Part Number: 820571406; Manufacturer: Wurth Elektronik; Channel Input Capacitance: 2930 pF; Clamping Voltage: 43 V; Energy Absorption: 1.4 J; Operating Voltage (AC): 14 V; Operating Voltage (DC): 18 V; Power Dissipation: 0.02 W; (Reverse) Breakdown Voltage: 22 V; (Reverse) Peak Pulse Current: 250 A; Category: Surge Protection; Match Code: WE-VD; ComponentLink1Description: Website Link; ComponentLink1URL: https://www.we-online.com/redexpert/article/820571406?ad; ComponentLink2Description: Datasheet Link; ComponentLink2URL: https://www.we-online.com/redexpert/spec/820571406?ad; Mount: Through Hole; Min Operating Temperature: -40 °C; Max Operating Temperature: 105 °C; Packaging: Tape and Reel; Width: 4.5 mm; Height: 12 mm; Diameter: 9 mm
footprint D9W4.5H12P0.8
pins: 1, 2

## 820572501
designator RV?, comment 25 VAC, 31 VDC
WE-VD Disk Varistor, D9 x H12 mm, 25 VAC, 31 VDC; Manufacturer Part Number: 820572501; Manufacturer: Wurth Elektronik; Channel Input Capacitance: 1820 pF; Clamping Voltage: 77 V; Energy Absorption: 2.4 J; Operating Voltage (AC): 25 V; Operating Voltage (DC): 31 V; Power Dissipation: 0.02 W; (Reverse) Breakdown Voltage: 39 V; (Reverse) Peak Pulse Current: 250 A; Category: Surge Protection; Match Code: WE-VD; ComponentLink1Description: Website Link; ComponentLink1URL: https://www.we-online.com/redexpert/article/820572501?ad; ComponentLink2Description: Datasheet Link; ComponentLink2URL: https://www.we-online.com/redexpert/spec/820572501?ad; Mount: Through Hole; Min Operating Temperature: -40 °C; Max Operating Temperature: 105 °C; Packaging: Tape and Reel; Width: 4.7 mm; Height: 12 mm; Diameter: 9 mm
footprint D9W4.7H12P0.8
pins: 1, 2

## 820572511
designator RV?, comment 250 VAC, 320 VDC
WE-VD Disk Varistor, D9 x H12.5 mm, 250 VAC, 320 VDC; Manufacturer Part Number: 820572511; Manufacturer: Wurth Elektronik; Channel Input Capacitance: 110 pF; Clamping Voltage: 650 V; Energy Absorption: 30 J; Operating Voltage (AC): 250 V; Operating Voltage (DC): 320 V; Power Dissipation: 0.25 W; (Reverse) Breakdown Voltage: 390 V; (Reverse) Peak Pulse Current: 1200 A; Category: Surge Protection; Match Code: WE-VD; ComponentLink1Description: Website Link; ComponentLink1URL: https://www.we-online.com/redexpert/article/820572511?ad; ComponentLink2Description: Datasheet Link; ComponentLink2URL: https://www.we-online.com/redexpert/spec/820572511?ad; Mount: Through Hole; Min Operating Temperature: -40 °C; Max Operating Temperature: 105 °C; Packaging: Tape and Reel; Width: 5.3 mm; Height: 12.5 mm; Diameter: 9 mm
footprint D9W5.3H12.5P1.3
pins: 1, 2

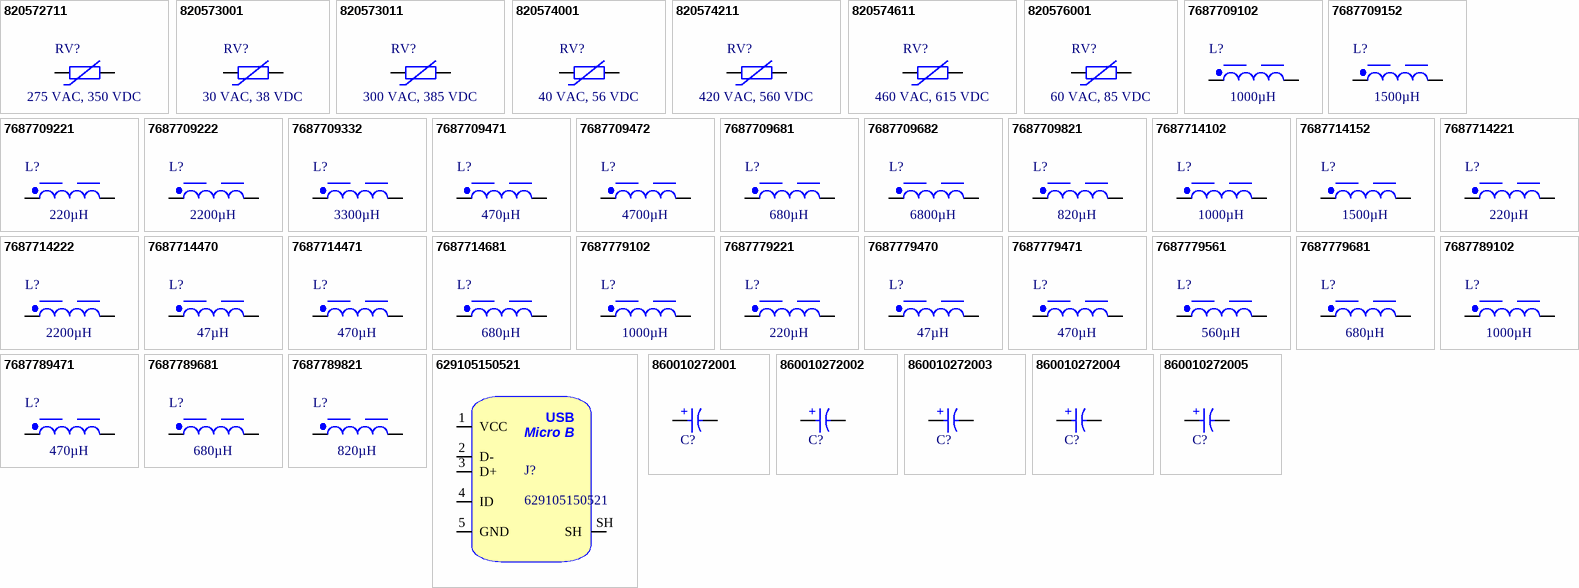
[diagram p5: symbols 820572711 to 860010272005]

## 820572711
designator RV?, comment 275 VAC, 350 VDC
WE-VD Disk Varistor, D9 x H12.5 mm, 275 VAC, 350 VDC; Manufacturer Part Number: 820572711; Manufacturer: Wurth Elektronik; Channel Input Capacitance: 105 pF; Clamping Voltage: 710 V; Energy Absorption: 33 J; Operating Voltage (AC): 275 V; Operating Voltage (DC): 350 V; Power Dissipation: 0.25 W; (Reverse) Breakdown Voltage: 430 V; (Reverse) Peak Pulse Current: 1200 A; Category: Surge Protection; Match Code: WE-VD; ComponentLink1Description: Website Link; ComponentLink1URL: https://www.we-online.com/redexpert/article/820572711?ad; ComponentLink2Description: Datasheet Link; ComponentLink2URL: https://www.we-online.com/redexpert/spec/820572711?ad; Mount: Through Hole; Min Operating Temperature: -40 °C; Max Operating Temperature: 105 °C; Packaging: Tape and Reel; Width: 6.1 mm; Height: 12.5 mm; Diameter: 9 mm
footprint D9W6.1H12.5P1.5
pins: 1, 2

## 820573001
designator RV?, comment 30 VAC, 38 VDC
WE-VD Disk Varistor, D9 x H12 mm, 30 VAC, 38 VDC; Manufacturer Part Number: 820573001; Manufacturer: Wurth Elektronik; Channel Input Capacitance: 1600 pF; Clamping Voltage: 93 V; Energy Absorption: 3 J; Operating Voltage (AC): 30 V; Operating Voltage (DC): 38 V; Power Dissipation: 0.02 W; (Reverse) Breakdown Voltage: 47 V; (Reverse) Peak Pulse Current: 250 A; Category: Surge Protection; Match Code: WE-VD; ComponentLink1Description: Website Link; ComponentLink1URL: https://www.we-online.com/redexpert/article/820573001?ad; ComponentLink2Description: Datasheet Link; ComponentLink2URL: https://www.we-online.com/redexpert/spec/820573001?ad; Mount: Through Hole; Min Operating Temperature: -40 °C; Max Operating Temperature: 105 °C; Packaging: Tape and Reel; Width: 5 mm; Height: 12 mm; Diameter: 9 mm
footprint D9W5H12P0.8
pins: 1, 2

## 820573011
designator RV?, comment 300 VAC, 385 VDC
WE-VD Disk Varistor, D9 x H12.5 mm, 300 VAC, 385 VDC; Manufacturer Part Number: 820573011; Manufacturer: Wurth Elektronik; Channel Input Capacitance: 100 pF; Clamping Voltage: 775 V; Energy Absorption: 35 J; Operating Voltage (AC): 300 V; Operating Voltage (DC): 385 V; Power Dissipation: 0.25 W; (Reverse) Breakdown Voltage: 470 V; (Reverse) Peak Pulse Current: 1200 A; Category: Surge Protection; Match Code: WE-VD; ComponentLink1Description: Website Link; ComponentLink1URL: https://www.we-online.com/redexpert/article/820573011?ad; ComponentLink2Description: Datasheet Link; ComponentLink2URL: https://www.we-online.com/redexpert/spec/820573011?ad; Mount: Through Hole; Min Operating Temperature: -40 °C; Max Operating Temperature: 105 °C; Packaging: Tape and Reel; Width: 6.4 mm; Height: 12.5 mm; Diameter: 9 mm
footprint D9W6.4H12.5P1.7
pins: 1, 2

## 820574001
designator RV?, comment 40 VAC, 56 VDC
WE-VD Disk Varistor, D9 x H12 mm, 40 VAC, 56 VDC; Manufacturer Part Number: 820574001; Manufacturer: Wurth Elektronik; Channel Input Capacitance: 1120 pF; Clamping Voltage: 135 V; Energy Absorption: 4.3 J; Operating Voltage (AC): 40 V; Operating Voltage (DC): 56 V; Power Dissipation: 0.02 W; (Reverse) Breakdown Voltage: 68 V; (Reverse) Peak Pulse Current: 250 A; Category: Surge Protection; Match Code: WE-VD; ComponentLink1Description: Website Link; ComponentLink1URL: https://www.we-online.com/redexpert/article/820574001?ad; ComponentLink2Description: Datasheet Link; ComponentLink2URL: https://www.we-online.com/redexpert/spec/820574001?ad; Mount: Through Hole; Min Operating Temperature: -40 °C; Max Operating Temperature: 105 °C; Packaging: Tape and Reel; Width: 5.5 mm; Height: 12 mm; Diameter: 9 mm
footprint D9W5.5H12P1.5
pins: 1, 2

## 820574211
designator RV?, comment 420 VAC, 560 VDC
WE-VD Disk Varistor, D9 x H13 mm, 420 VAC, 560 VDC; Manufacturer Part Number: 820574211; Manufacturer: Wurth Elektronik; Channel Input Capacitance: 78 pF; Clamping Voltage: 1120 V; Energy Absorption: 43 J; Operating Voltage (AC): 420 V; Operating Voltage (DC): 560 V; Power Dissipation: 0.25 W; (Reverse) Breakdown Voltage: 680 V; (Reverse) Peak Pulse Current: 1200 A; Category: Surge Protection; Match Code: WE-VD; ComponentLink1Description: Website Link; ComponentLink1URL: https://www.we-online.com/redexpert/article/820574211?ad; ComponentLink2Description: Datasheet Link; ComponentLink2URL: https://www.we-online.com/redexpert/spec/820574211?ad; Mount: Through Hole; Min Operating Temperature: -40 °C; Max Operating Temperature: 105 °C; Packaging: Tape and Reel; Width: 7.5 mm; Height: 13 mm; Diameter: 9 mm
footprint D9W7.5H13P2.7
pins: 1, 2